# Altium schematic symbol library SCH - MCU - NUVOTON - NUVOTON NUC505DL13Y.SchLib: 1 symbol
Pins are listed as number, name and electrical type; pins without a type are passive.

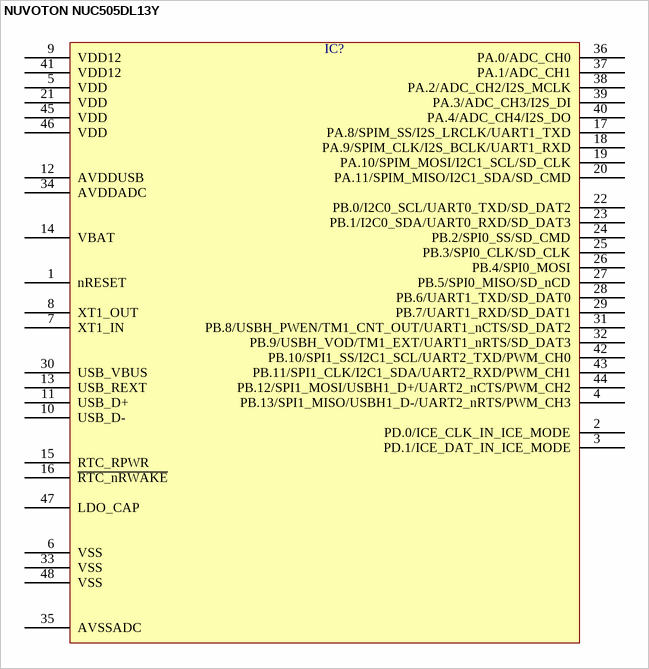
[diagram p0: symbol NUVOTON NUC505DL13Y]

## NUVOTON NUC505DL13Y
designator IC?  (value not drawn)
pins: 1 nRESET, 2 PD.0/ICE_CLK_IN_ICE_MODE, 3 PD.1/ICE_DAT_IN_ICE_MODE, 4 PB.13/SPI1_MISO/USBH1_D-/UART2_nRTS/PWM_CH3, 5 VDD, 6 VSS, 7 XT1_IN, 8 XT1_OUT, 9 VDD12, 10 USB_D-, 11 USB_D+, 12 AVDDUSB, 13 USB_REXT, 14 VBAT, 15 RTC_RPWR, 16 ~{RTC_nRWAKE}, 17 PA.8/SPIM_SS/I2S_LRCLK/UART1_TXD, 18 PA.9/SPIM_CLK/I2S_BCLK/UART1_RXD, 19 PA.10/SPIM_MOSI/I2C1_SCL/SD_CLK, 20 PA.11/SPIM_MISO/I2C1_SDA/SD_CMD, 21 VDD, 22 PB.0/I2C0_SCL/UART0_TXD/SD_DAT2, 23 PB.1/I2C0_SDA/UART0_RXD/SD_DAT3, 24 PB.2/SPI0_SS/SD_CMD, 25 PB.3/SPI0_CLK/SD_CLK, 26 PB.4/SPI0_MOSI, 27 PB.5/SPI0_MISO/SD_nCD, 28 PB.6/UART1_TXD/SD_DAT0, 29 PB.7/UART1_RXD/SD_DAT1, 30 USB_VBUS, 31 PB.8/USBH_PWEN/TM1_CNT_OUT/UART1_nCTS/SD_DAT2, 32 PB.9/USBH_VOD/TM1_EXT/UART1_nRTS/SD_DAT3, 33 VSS, 34 AVDDADC, 35 AVSSADC, 36 PA.0/ADC_CH0, 37 PA.1/ADC_CH1, 38 PA.2/ADC_CH2/I2S_MCLK, 39 PA.3/ADC_CH3/I2S_DI, 40 PA.4/ADC_CH4/I2S_DO, 41 VDD12, 42 PB.10/SPI1_SS/I2C1_SCL/UART2_TXD/PWM_CH0, 43 PB.11/SPI1_CLK/I2C1_SDA/UART2_RXD/PWM_CH1, 44 PB.12/SPI1_MOSI/USBH1_D+/UART2_nCTS/PWM_CH2, 45 VDD, 46 VDD, 47 LDO_CAP, 48 VSS